# Altium footprint library AMPHENOL_10118194-0001LF.PcbLib: 1 footprints
Each footprint in its own frame and in the unit in brackets; x right, y up, seen from the top. Pads: shape width x height; smd on the part's side, far side on the other; paste and mask are expansions set on the pad; w line width, h text height; cw(c..) or ccw(c..) is an arc to the next point about the centre after c.
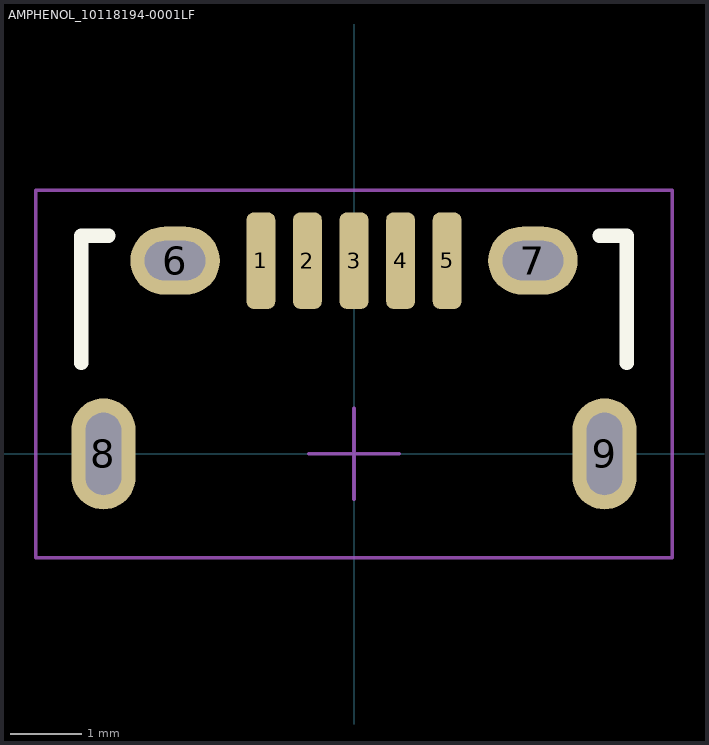
[diagram p0: the footprint, top view; thin cyan lines are the x and y axes]

## AMPHENOL_10118194-0001LF [mm]
pads (9):
  rrect50% 0.4x1.35 smd: 1(-1.3,2.7) 2(-0.65,2.7) 3(0,2.7) 4(0.65,2.7) 5(1.3,2.7)
  oval 1.25x0.95 hole 0.55 slot 0.85 at 0 deg: 6(-2.5,2.7) 7(2.5,2.7)
  oval 0.9x1.55 hole 0.5 slot 1.15 at 90 deg: 8(-3.5,0) 9(3.5,0)
Top Overlay:
  lines w0.2: -3.81,1.27 -3.81,3.048 -3.429,3.048 ; 3.429,3.048 3.81,3.048 3.81,1.27
Mechanical 15:
  lines w0.05: -0.635,0 0.635,0 ; 0,-0.635 0,0.635 ; -4.445,-1.45 -4.445,3.683 4.445,3.683 4.445,-1.45 -4.445,-1.45
3D body: height 2.75, standoff -0.53, extent -4.025,-2.659 4.025,2.921